# Altium footprint library openmv-stm32n.PcbLib: 58 footprints (part 3 of 4)
Each footprint in its own frame and in the unit in brackets; x right, y up, seen from the top. Pads: shape width x height; smd on the part's side, far side on the other; paste and mask are expansions set on the pad; w line width, h text height; cw(c..) or ccw(c..) is an arc to the next point about the centre after c.
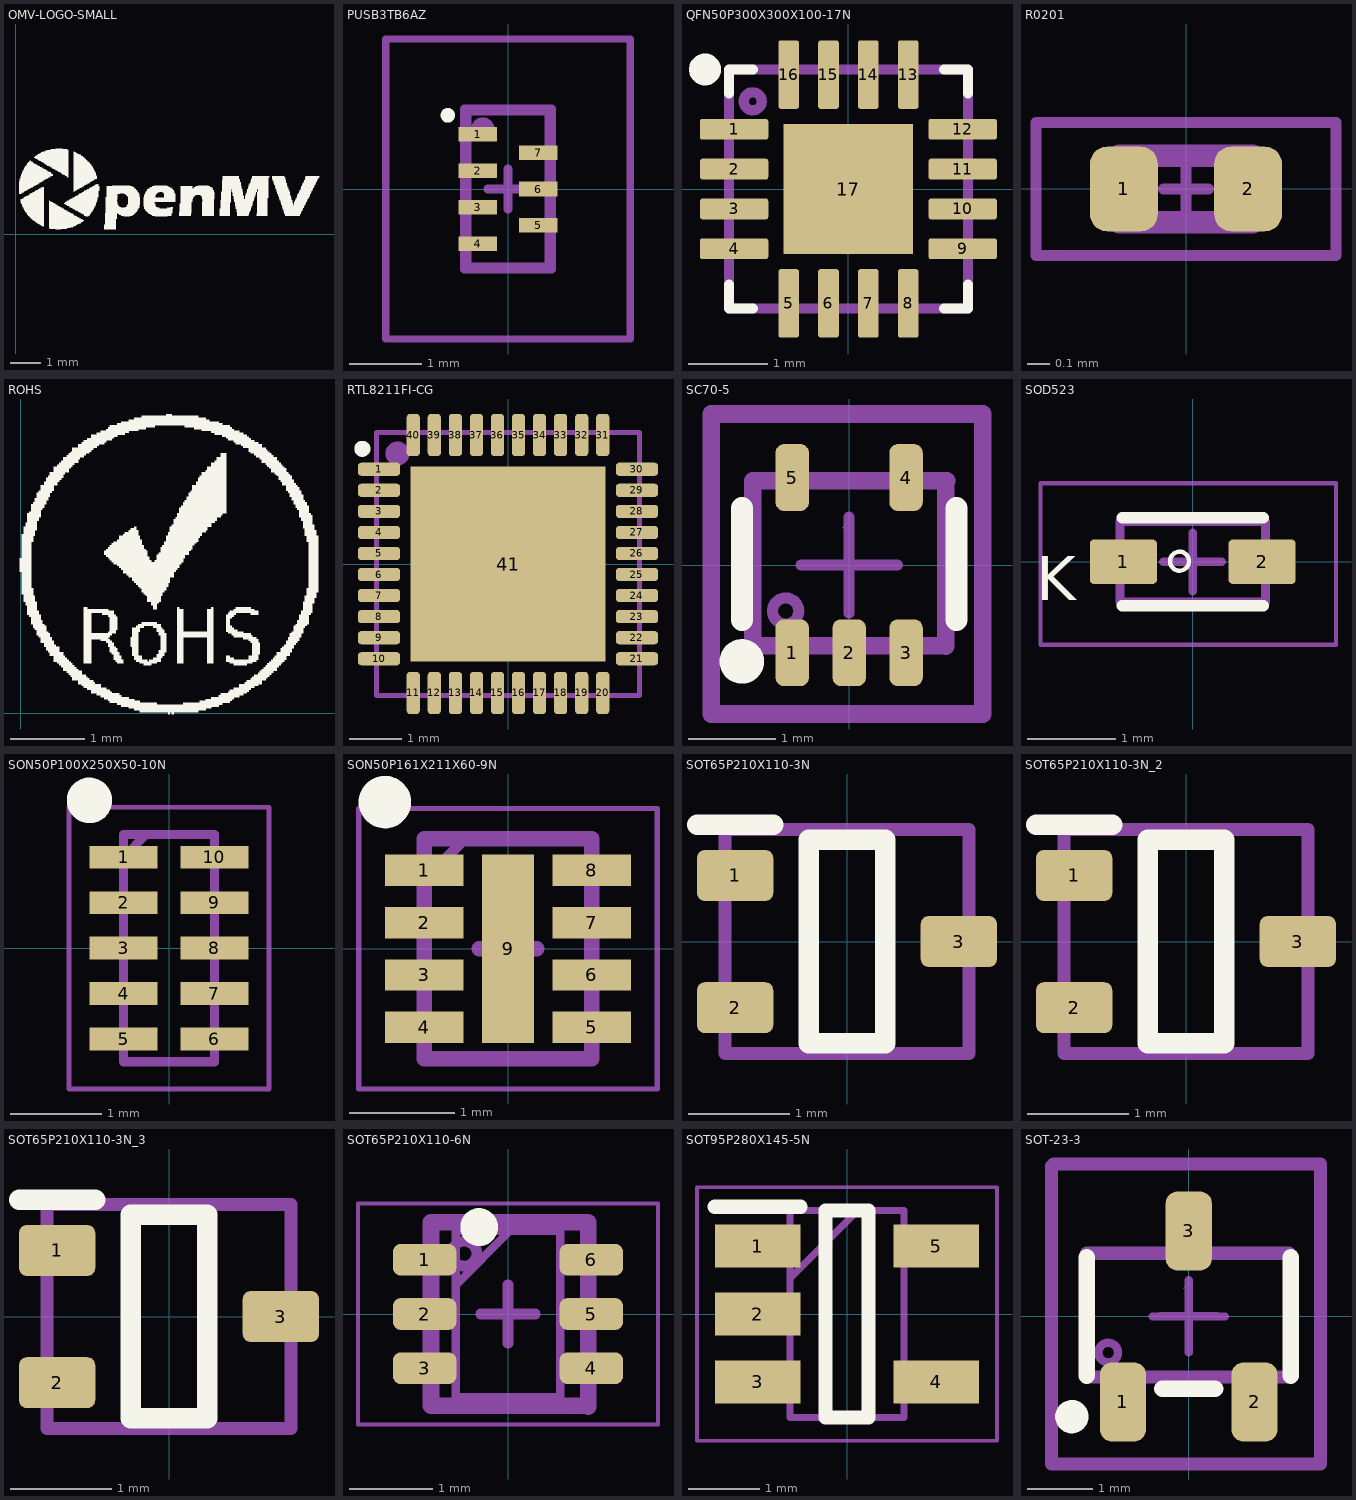
[diagram p2: the footprints below, top view; thin cyan lines are the x and y axes]

## OMV-LOGO-SMALL [mm] "OMV-LOGO-SMALL"
height 2.5
Top Overlay:
  drawing of 701 lines, arcs and shapes, not listed

## PUSB3TB6AZ [mm]
height 2.5
pads (7):
  rect 0.53x0.2 smd mask+0.05: 1(-0.415,0.75) 2(-0.415,0.25) 3(-0.415,-0.25) 4(-0.415,-0.75) 5(0.415,-0.5) 6(0.415,0) 7(0.415,0.5)
Top Overlay:
  lines w0.1: -0.877,1.013 cw(c-0.827,1.013) -0.777,1.013 cw(c-0.827,1.013) -0.877,1.013
Top 3D Body (Mech13):
  circle w0.203: c-0.347,0.825 r0.058
  lines w0.127: -0.275,0 0,0 ; 0,-0.275 0,0 ; 0.275,0 0,0 ; 0,0 0,0.275 0,0 ; -0.6,-1.1 0.6,-1.1 0.6,1.1 -0.6,1.1 -0.6,-1.1
  text ".designator" at 0.58,-1 h0.3
Mechanical 15:
  lines w0.1: -0.55,-1.063 0.55,-1.063 0.55,1.063 -0.55,1.063 -0.55,-1.063
Mechanical 20:
  lines w0.1: -1.68,-2.063 1.68,-2.063 1.68,2.063 -1.68,2.063 -1.68,-2.063
3D body: height 0.5, standoff 0, extent -0.6,-1.1 0.6,1.1

## QFN50P300X300X100-17N [mil] "QFN50P300X300X100-17N"
height 98.43
pads (17):
  rrect25% 33.86x10.24 smd mask+2: 1(-56.5,29.53) 2(-56.5,9.84) 3(-56.5,-9.84) 4(-56.5,-29.53) 9(56.5,-29.53) 10(56.5,-9.84) 11(56.5,9.84) 12(56.5,29.53)
  rrect25% 10.24x33.86 smd mask+2: 5(-29.53,-56.5) 6(-9.84,-56.5) 7(9.84,-56.5) 8(29.53,-56.5) 13(29.53,56.5) 14(9.84,56.5) 15(-9.84,56.5) 16(-29.53,56.5)
  rect 64x64 smd paste-393.7 mask+2: 17(0,0)
Top Overlay:
  circle w7.87: c-70.87,59.06 r3.94
  lines w5: -59.06,-47.24 -59.06,-59.06 -47.24,-59.06 ; -59.06,47.24 -59.06,59.06 -47.24,59.06 ; 47.24,-59.06 59.06,-59.06 59.06,-47.24 ; 47.24,59.06 59.06,59.06 59.06,47.24
Top Paste:
  region: -15.75,-15.75 -15.75,15.75 15.75,15.75 15.75,-15.75
Top 3D Body (Mech13):
  circle w5: c-47.24,43.31 r4.46
  lines w5: -11.81,0 0,0 ; 0,-11.81 0,0 ; 0,11.81 0,0 ; 11.81,0 0,0 ; -59.06,-59.06 59.06,-59.06 59.06,59.06 -59.06,59.06 -59.06,-59.06
  text ".designator" at -55.12,-64.97 h25
3D body: height 39.37, standoff 0, extent -59.06,-59.06 59.06,59.06

## R0201 [mil] "0201 IPC-7351"
height 10.24
pads (2):
  rrect50% 12x15 smd mask+1.97: 1(-11,0) 2(11,0)
Top 3D Body (Mech13):
  lines w3.94: -11.81,-5.91 11.81,-5.91 11.81,5.91 -11.81,5.91 -11.81,-5.91
  text ".designator" at -7.87,-2.95 h15.75
Mechanical 15:
  lines w1.97: -3.94,0 0,0 ; 0,-3.94 0,0 ; 0,3.94 0,0 ; 3.94,0 0,0 ; -26.57,-11.81 26.57,-11.81 26.57,11.81 -26.57,11.81 -26.57,-11.81
3D body "R0201.step": height 9.06, standoff 0, extent -11.81,-5.9 11.81,5.91

## ROHS [mm] "ROHS"
height 2.5
Top Overlay:
  drawing of 599 lines, arcs and shapes, not listed

## RTL8211FI-CG [mm]
pads (41):
  rrect50% 0.8x0.25 smd mask+0.05: 1(-2.45,1.8) 2(-2.45,1.4) 3(-2.45,1) 4(-2.45,0.6) 5(-2.45,0.2) 6(-2.45,-0.2) 7(-2.45,-0.6) 8(-2.45,-1) 9(-2.45,-1.4) 10(-2.45,-1.8) 21(2.45,-1.8) 22(2.45,-1.4) 23(2.45,-1) 24(2.45,-0.6) 25(2.45,-0.2) 26(2.45,0.2) 27(2.45,0.6) 28(2.45,1) 29(2.45,1.4) 30(2.45,1.8)
  rrect50% 0.25x0.8 smd mask+0.05: 11(-1.8,-2.45) 12(-1.4,-2.45) 13(-1,-2.45) 14(-0.6,-2.45) 15(-0.2,-2.45) 16(0.2,-2.45) 17(0.6,-2.45) 18(1,-2.45) 19(1.4,-2.45) 20(1.8,-2.45) 31(1.8,2.45) 32(1.4,2.45) 33(1,2.45) 34(0.6,2.45) 35(0.2,2.45) 36(-0.2,2.45) 37(-0.6,2.45) 38(-1,2.45) 39(-1.4,2.45) 40(-1.8,2.45)
  rect 3.7x3.7 smd paste-5 mask+0.05: 41(0,0)
Top Overlay:
  circle w0.254: c-2.767,2.19 r0.025
Top Paste:
  rectangle: -0.8,-0.7 -0.3,-0.2
  region: 0.8,-0.2 0.3,-0.2 0.3,-0.7 0.8,-0.7
  region: 0.8,0.7 0.3,0.7 0.3,0.2 0.8,0.2
  rectangle: -0.8,0.2 -0.3,0.7
  region: -1.2,-0.699 -1.2,-0.199 -1.7,-0.199 -1.7,-0.699
  region: 1.2,0.699 1.2,0.199 1.7,0.199 1.7,0.699
  region: -1.7,0.699 -1.7,0.199 -1.2,0.199 -1.2,0.699
  region: 1.7,-0.7 1.7,-0.2 1.2,-0.2 1.2,-0.7
  rectangle: -0.8,-1.7 -0.3,-1.2
  region: 0.8,-1.2 0.3,-1.2 0.3,-1.7 0.8,-1.7
  region: 0.8,1.7 0.3,1.7 0.3,1.2 0.8,1.2
  rectangle: -0.8,1.2 -0.3,1.7
  rectangle: -1.7,-1.7 -1.2,-1.2
  region: 1.7,-1.2 1.2,-1.2 1.2,-1.7 1.7,-1.7
  region: 1.7,1.7 1.2,1.7 1.2,1.2 1.7,1.2
  rectangle: -1.7,1.2 -1.2,1.7
Top 3D Body (Mech13):
  circle w0.254: c-2.1,2.1 r0.1
  lines w0.1: -2.5,-2.5 -2.5,2.5 2.5,2.5 2.5,-2.5 -2.5,-2.5
  lines w0.15: -0.3,0 0.3,0 ; 0,-0.3 0,0.3
  text ".designator" at -2.3,-2.433 h0.5
3D body: height 0.85, standoff 0, extent -2.5,-2.5 2.5,2.5

## SC70-5 [mil]
height 50.98
pads (5):
  rrect50% 15x30 smd: 1(-25.59,-39.37) 2(0,-39.37) 3(25.59,-39.37) 4(25.59,39.37) 5(-25.59,39.37)
Top Overlay:
  circle w10: c-48.23,-43.31 r5
  lines w10: -48.23,-24.61 -48.23,25.59 ; 48.23,-24.61 48.23,25.59
Top 3D Body (Mech13):
  circle w5: c-28.54,-20.67 r5.91
  lines w5: -13.78,0 -0.01,0 ; -0.01,-12.8 -0.01,-0.01 ; -0.01,12.8 -0.01,-0.01 ; 13.78,-0.01 -0.01,-0.01
  lines w7.87: -43.31,-36.35 -43.31,37.84 43.75,37.84 43.31,37.4 43.31,-36.42 43.24,-36.35 -43.31,-36.35
  text ".designator" at -36.42,16.73 h15.75
Mechanical 15:
  lines w0.1: -2.99,16.88 -0.99,18.88
  lines w4.92: -21.65,0 0,0 ; 0,-21.65 0,0 ; 0,21.65 0,0 ; 21.65,0 0,0
  lines w7.87: -62.01,-66.93 -62.01,67.91 60.04,67.91 60.04,-66.93 -62.01,-66.93
3D body "SC-70.stp": height 43.31, standoff 0, extent -43.31,-47.24 43.31,47.24

## SOD523 [mil]
pads (2):
  rrect20% 30x20 smd: 1(-31,0) 2(31,0)
Top Overlay:
  circle w1.97: c-5.9,0.25 r4.25
  lines w5: -31.5,-19.68 31.5,-19.68 ; -31.5,19.68 31.5,19.68
  text "K" at -70.02,-17.24 h19.68
Top 3D Body (Mech13):
  circle w1.97: c-22.44,-0.28 r3.45
  lines w3.94: -32.48,-18 32.48,-18 32.48,18 -32.48,18 -32.48,-18
  text ".designator" at -15,-13 h12
Mechanical 15:
  lines w1.97: -68,-37 64,-37 64,35 -68,35 -68,-37
  lines w3.94: -13,0 0,0 ; 0,-13 0,0 ; 0,13 0,0 ; 13,0 0,0
3D body "SC-79.stp": height 27.56, standoff 0, extent -33.46,-17.43 33.47,18.01

## SON50P100X250X50-10N [mm]
height 2.5
pads (10):
  rect 0.75x0.25 smd mask+0.05: 1(-0.5,1) 2(-0.5,0.5) 3(-0.5,0) 4(-0.5,-0.5) 5(-0.5,-1) 6(0.5,-1) 7(0.5,-0.5) 8(0.5,0) 9(0.5,0.5) 10(0.5,1)
Top Overlay:
  circle w0.25: c-0.875,1.625 r0.125
Mechanical 15:
  lines w0.1: -0.5,1 -0.25,1.25 ; -0.5,-1.25 -0.5,1.25 0.5,1.25 0.5,-1.25 -0.5,-1.25
Mechanical 20:
  lines w0.05: -1.1,-1.55 -1.1,1.55 1.1,1.55 1.1,-1.55 -1.1,-1.55

## SON50P161X211X60-9N [mm]
height 2.5
pads (9):
  rect 0.75x0.3 smd: 1(-0.8,0.75) 2(-0.8,0.25) 3(-0.8,-0.25) 4(-0.8,-0.75) 5(0.8,-0.75) 6(0.8,-0.25) 7(0.8,0.25) 8(0.8,0.75)
  rect 0.5x1.8 smd: 9(0,0)
Top Overlay:
  circle w0.25: c-1.175,1.4 r0.125
Top 3D Body (Mech13):
  lines w0.15: -0.275,0 0,0 ; 0,-0.275 0,0 ; 0,0.275 0,0 ; 0.275,0 0,0 ; -0.8,-1.05 0.8,-1.05 0.8,1.05 -0.8,1.05 -0.8,-1.05
  text ".designator" at -0.75,-1.133 h0.38
Mechanical 15:
  lines w0.1: -0.806,0.653 -0.403,1.056 ; -0.806,-1.056 -0.806,1.056 0.806,1.056 0.806,-1.056 -0.806,-1.056
Mechanical 20:
  lines w0.05: -1.425,-1.338 -1.425,1.338 1.425,1.338 1.425,-1.338 -1.425,-1.338
3D body: height 0.6, standoff 0, extent -0.8,-1.05 0.8,1.05

## SOT65P210X110-3N [mm] "SOT65P210X110-3N"
height 2.5
pads (3):
  rrect30% 0.75x0.5 smd: 1(-1.1,0.65) 2(-1.1,-0.65) 3(1.1,0)
Top Overlay:
  lines w0.2: -1.475,1.15 -0.725,1.15 ; -0.375,-1 0.375,-1 0.375,1 -0.375,1 -0.375,-1
Top 3D Body (Mech13):
  circle w0.127: c-1,0.8 r0.028
  lines w0.127: -1.2,-1.1 -1.2,1.1 1.2,1.1 1.2,-1.1 -1.2,-1.1
  text ".designator" at -1,-1.25 h0.64
3D body "SC-70.stp": height 1.1, standoff 0, extent -1.2,-1.1 1.2,1.1

## SOT65P210X110-3N_2 [mm]
pads (3):
  rrect30% 0.75x0.5 smd: 1(-1.1,0.65) 2(-1.1,-0.65) 3(1.1,0)
Top Overlay:
  lines w0.2: -1.475,1.15 -0.725,1.15 ; -0.375,-1 -0.375,1 0.375,1 0.375,-1 -0.375,-1
Top 3D Body (Mech13):
  circle w0.127: c-1,0.8 r0.028
  lines w0.127: -1.2,-1.1 1.2,-1.1 1.2,1.1 -1.2,1.1 -1.2,-1.1
  text ".designator" at -1,-1.25 h0.64
3D body "SC-70.stp": height 1.1, standoff 0, extent -1.2,-1.1 1.2,1.1

## SOT65P210X110-3N_3 [mm]
pads (3):
  rrect30% 0.75x0.5 smd: 1(-1.1,0.65) 2(-1.1,-0.65) 3(1.1,0)
Top Overlay:
  lines w0.2: -1.475,1.15 -0.725,1.15 ; -0.375,-1 0.375,-1 0.375,1 -0.375,1 -0.375,-1
Top 3D Body (Mech13):
  circle w0.127: c-1,0.8 r0.028
  lines w0.127: -1.2,-1.1 -1.2,1.1 1.2,1.1 1.2,-1.1 -1.2,-1.1
  text ".designator" at -1,-1.25 h0.64
3D body "SC-70.stp": height 1.1, standoff 0, extent -1.2,-1.1 1.2,1.1

## SOT65P210X110-6N [mil]
height 98.43
pads (6):
  rrect50% 30x15 smd: 1(-39.37,25.59) 2(-39.37,0) 3(-39.37,-25.59) 4(39.37,-25.59) 5(39.37,0) 6(39.37,25.59)
Top Overlay:
  circle w10: c-13.64,41.06 r3.94
Top 3D Body (Mech13):
  circle w5: c-20.66,28.53 r5.91
  lines w5: -12.79,0 0,0 ; 0,-13.79 0,0 ; 0,13.77 0,0 ; 12.8,0 0,0
  lines w7.87: -36.41,-43.32 37.41,-43.32 37.85,-43.76 37.85,43.3 -36.35,43.3 -36.35,-43.25 -36.41,-43.32
  text ".designator" at 16.74,36.41 h15.75
Mechanical 15:
  lines w3.94: -24.61,13.78 0.98,39.37 ; -24.61,-39.37 24.61,-39.37 24.61,39.37 -24.61,39.37 -24.61,-39.37
Mechanical 20:
  lines w1.97: -70.87,-52.17 70.87,-52.17 70.87,52.17 -70.87,52.17 -70.87,-52.17
3D body "SC-70.stp": height 43.31, standoff 0, extent -47.24,-43.32 47.25,43.3

## SOT95P280X145-5N [mm]
height 2.5
pads (5):
  rect 1.2x0.6 smd: 1(-1.25,0.95) 2(-1.25,0) 3(-1.25,-0.95) 4(1.25,-0.95) 5(1.25,0.95)
Top Overlay:
  lines w0.2: -1.85,1.5 -0.65,1.5 ; -0.3,-1.45 -0.3,1.45 0.3,1.45 0.3,-1.45 -0.3,-1.45
Mechanical 15:
  lines w0.1: -0.8,0.5 0.15,1.45 ; -0.8,-1.45 -0.8,1.45 0.8,1.45 0.8,-1.45 -0.8,-1.45
Mechanical 20:
  lines w0.05: -2.1,-1.775 -2.1,1.775 2.1,1.775 2.1,-1.775 -2.1,-1.775

## SOT-23-3 [mm]
height 1.295
pads (3):
  rrect50% 0.7x1.2 smd: 1(-1,-1.3) 2(1,-1.3) 3(0,1.3)
Top Overlay:
  circle w0.254: c-1.778,-1.524 r0.127
  lines w0.254: -1.55,-0.9 -1.55,0.9 ; -0.4,-1.1 0.4,-1.1 ; 1.55,-0.9 1.55,0.9
Top 3D Body (Mech13):
  circle w0.127: c-1.225,-0.55 r0.15
  lines w0.127: -0.432,0 0,0 ; 0,-0.432 0,0 ; 0,0.432 0,0 ; 0.432,0 0,0
  lines w0.2: -1.557,-0.931 -1.549,-0.923 1.557,-0.923 1.549,-0.916 1.549,0.936 1.524,0.961 -1.557,0.961 -1.557,-0.931
  text ".designator" at -1.346,0.406 h0.4
Mechanical 15:
  lines w0.003: -0.076,0.429 -0.025,0.48
  lines w0.125: -0.55,0 0,0 ; 0,-0.55 0,0 ; 0,0.55 0,0 ; 0.55,0 0,0
  lines w0.2: -2.085,2.285 -2.085,-2.244 2.001,-2.244 2.001,2.318 -2.052,2.318
3D body "SOT23-3.stp": height 1.11, standoff -0.07, extent -1.5,-1.418 1.5,1.418